# Altium schematic symbol library ON Semiconductor.SchLib: 7 symbols
Pins are listed as number, name and electrical type; pins without a type are passive.

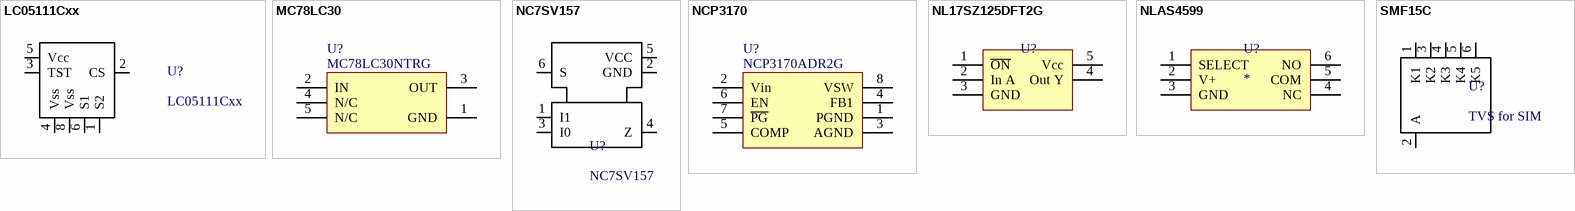
[diagram p0: symbols LC05111Cxx to SMF15C]

## LC05111Cxx
designator U?
Manufacturer: ON Semiconductor; Part Number: LC05111Cxx; Price 1: 1.059; Price 100: 0.693; Price 1000: 0.483
footprint WDFN6 2.6X4.0, 0.65P, DUAL FLAG
pins: 1 S2, 2 CS, 3 TST, 4 Vss, 5 Vcc, 6 S1, 7 D hidden, 8 Vss

## MC78LC30
designator U?, comment MC78LC30NTRG
ON SEMICONDUCTOR - MC78LC30NTRG - IC, LINEAR VOLTAGE REGULATOR Iq=1.1uF; Catalog: Farnell; Catalog number: 1652348; Price: *; Value: MC78LC30NTRG
footprint SOT23-5BL (SOT23, 5-Leads, Body 2.9x1.6mm, Pitch 0.95mm, Lead Span 2.8mm, IPC High Density)
pins: 1 GND, 2 IN, 3 OUT, 4 N/C, 5 N/C

## NC7SV157
designator U?
2-Input  Non-Inverting Multiplexer; Manufacturer: ON Semiconductor; Part Number: *; Price 1: *; Price 100: *; Price 1000: *
footprint NC7SV157L6X (2-Input  Non-Inverting Multiplexer)
pins: 1 I1, 2 GND, 3 I0, 4 Z, 5 VCC, 6 S

## NCP3170
designator U?, comment NCP3170ADR2G
ON SEMICONDUCTOR - NCP3170ADR2G - IC, SYNC PWM SW CONV, 550KHZ, SOIC-8; Catalog: Farnell; Catalog number: 1924872; Price: *; Value: NCP3170ADR2G
footprint SOIC 8 127P SO8N (SOIC, 8-Leads, Body 4,9x3,9mm (max), Pitch 1,27mm, IPC Medium Density)
pins: 1 PGND, 2 Vin, 3 AGND, 4 FB1, 5 COMP, 6 EN, 7 ~{PG}, 8 VSW

## NL17SZ125DFT2G
designator U?  (value not drawn)
ON SEMICONDUCTOR - NL17SZ125DFT2G - IC, NOINVERTING BUFFER, SMD; Catalog: Farnell; Catalog number: 1468775; Value: NL17SZ125DFT2G; Price: 0.081
footprint SOT353-5L (SOT353, 5-Leads, Body 2x1.3mm, Pitch 0.65mm, Lead Span 2.1mm, IPC High Density)
pins: 1 ~{ON}, 2 In A, 3 GND, 4 Out Y, 5 Vcc

## NLAS4599
designator U?
ON SEMICONDUCTOR - NLAS4599DFT2G - SPDT, CMOS, 5.5V, 95RON, 23NS, 6SC88; Catalog number: 2318468; Value: NLAS4599DFT2G
footprint SOT363-6L (SOT363, 6-Leads, Body 2x1.3mm, Pitch 0.65mm, Lead Span 2.1mm, IPC High Density)
pins: 1 SELECT, 2 V+, 3 GND, 4 NC, 5 COM, 6 NO

## SMF15C
designator U?, comment TVS for SIM
Manufacturer: ON SEMI; Part Number: SMF15C
footprint SOT363-6L (SOT363, 6-Leads, Body 2x1.3mm, Pitch 0.65mm, Lead Span 2.1mm, IPC High Density)
pins: 1 K1, 2 A, 3 K2, 4 K3, 5 K4, 6 K5